# EAGLE library part ETHERNET_JACK (library T06_LockBox)
8-Pin eithernet jack
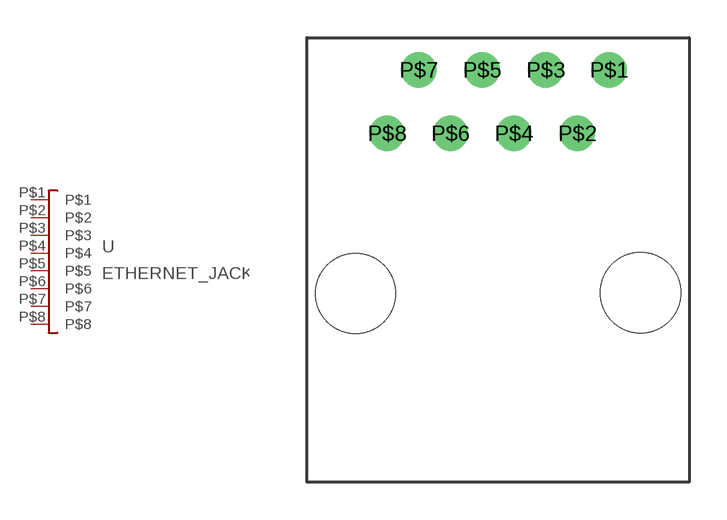
[diagram p3: symbol with the pads of MODJACK8; footprint MODJACK8]

Designator prefix -

## ETHERNET_JACK  [MODJACK8]
P$1  P$1
P$2  P$2
P$3  P$3
P$4  P$4
P$5  P$5
P$6  P$6
P$7  P$7
P$8  P$8

## Footprint MODJACK8 (pad centres in mm)
drill 0.9: P$1 4.45,16.5; P$2 3.18,13.96; P$3 1.91,16.5; P$4 0.64,13.96; P$5 -0.63,16.5; P$6 -1.9,13.96; P$7 -3.17,16.5; P$8 -4.44,13.96
hole 3.2 at 5.71,7.58
hole 3.2 at -5.7,7.55